# Altium integrated library on-semiconductor.IntLib: 17 symbols
Pins are listed as number, name and electrical type; pins without a type are passive.

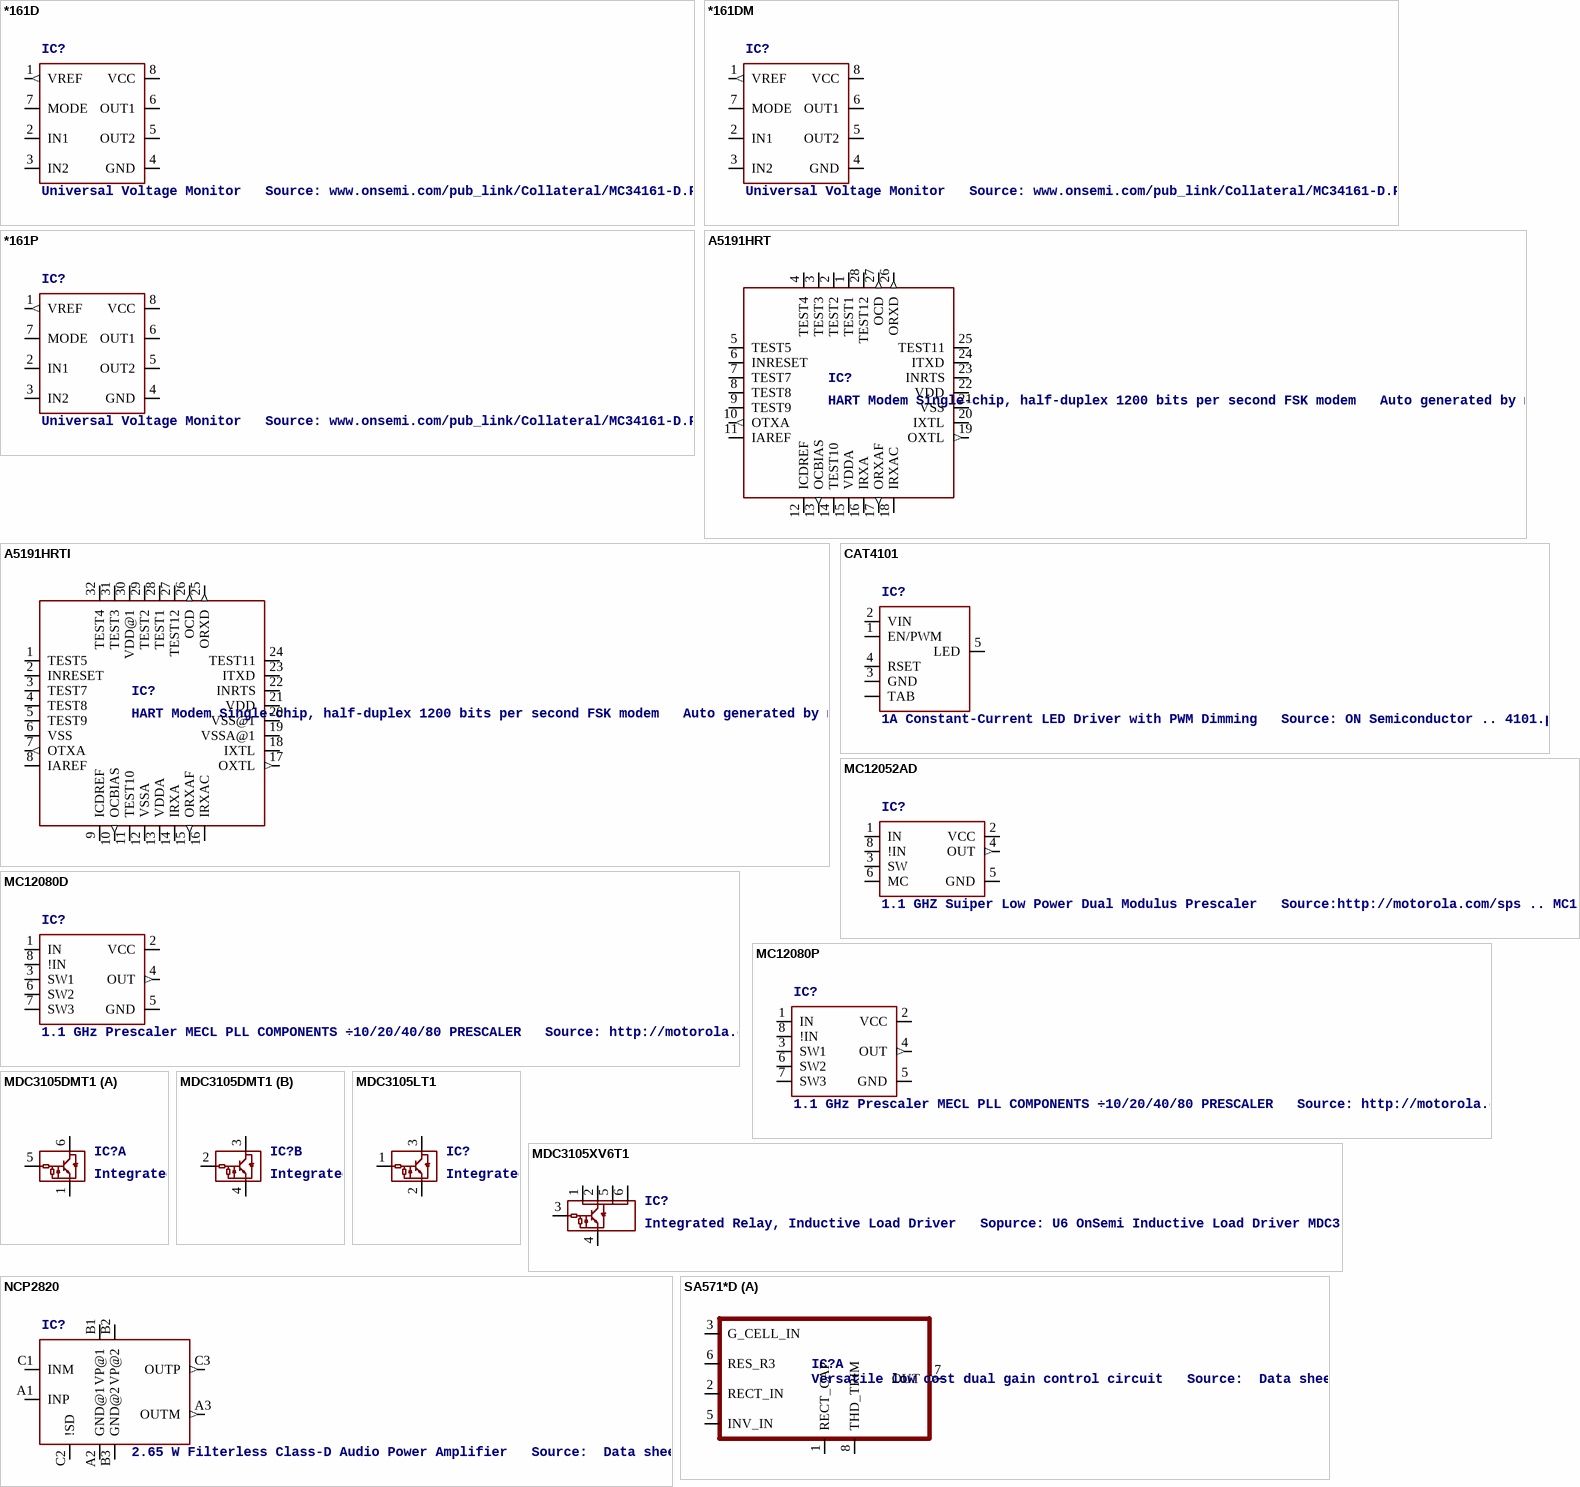
[diagram p0: symbols *161D to SA571*D]

## *161D
designator IC?, comment Universal Voltage Monitor   Source: www.onsemi.com/pub_link/Collateral/MC34161-D.PDF
MPN: MC33161D; MPN: MC34161D; MPN: NCV33161DR2G; MF: ON SEMICONDUCTOR; OC_FARNELL: 1192059; OC_NEWARK: 07F4768; OC_FARNELL: 1652462; OC_NEWARK: 07F5034; OC_FARNELL: unknown; OC_NEWARK: 27M2600
footprint SOIC8
pins: 1 VREF (out), 2 IN1, 3 IN2, 4 GND (power), 5 OUT2 (oc), 6 OUT1 (oc), 7 MODE, 8 VCC (power)

## *161DM
designator IC?, comment Universal Voltage Monitor   Source: www.onsemi.com/pub_link/Collateral/MC34161-D.PDF
MPN: MC33161DMR2G; MPN: MC34161DMR2G; MF: ON SEMICONDUCTOR; OC_FARNELL: 1705447; OC_NEWARK: 04R7825; OC_FARNELL: 1652462; OC_NEWARK: 42K0658
footprint MICRO8
pins: 1 VREF (out), 2 IN1, 3 IN2, 4 GND (power), 5 OUT2 (oc), 6 OUT1 (oc), 7 MODE, 8 VCC (power)

## *161P
designator IC?, comment Universal Voltage Monitor   Source: www.onsemi.com/pub_link/Collateral/MC34161-D.PDF
MPN: MC33161P; MPN: MC34161P; MF: ON SEMICONDUCTOR; OC_FARNELL: unknown; OC_NEWARK: 07F4769; OC_NEWARK: 07F5035
footprint DIL8
pins: 1 VREF (out), 2 IN1, 3 IN2, 4 GND (power), 5 OUT2 (oc), 6 OUT1 (oc), 7 MODE, 8 VCC (power)

## A5191HRT
designator IC?, comment HART Modem Single-chip, half-duplex 1200 bits per second FSK modem   Auto generated by make-symbol-device-package-bsdl.ulp Rev. 35 Source:OnSemi A5191HRT HART Modem Data Sheet.pdf
MPN: A5191HRTPG-XTD; OC_FARNELL: unknown; OC_NEWARK: 03P1167
footprint PLCC28
pins: 1 TEST1, 2 TEST2, 3 TEST3, 4 TEST4, 5 TEST5, 6 INRESET, 7 TEST7, 8 TEST8, 9 TEST9, 10 OTXA (out), 11 IAREF, 12 ICDREF, 13 OCBIAS (out), 14 TEST10, 15 VDDA (power), 16 IRXA, 17 ORXAF (out), 18 IRXAC, 19 OXTL (out), 20 IXTL, 21 VSS (power), 22 VDD (power), 23 INRTS, 24 ITXD, 25 TEST11, 26 ORXD (out), 27 OCD (out), 28 TEST12

## A5191HRTI
designator IC?, comment HART Modem Single-chip, half-duplex 1200 bits per second FSK modem   Auto generated by make-symbol-device-package-bsdl.ulp Rev. 35 Source:OnSemi A5191HRT HART Modem Data Sheet.pdf
MPN: A5191HRTLG-XTD; OC_FARNELL: unknown; OC_NEWARK: 03P1166
footprint LQFP32-7X7MM
pins: 1 TEST5, 2 INRESET, 3 TEST7, 4 TEST8, 5 TEST9, 6 VSS (power), 7 OTXA (out), 8 IAREF, 9 ICDREF, 10 OCBIAS (out), 11 TEST10, 12 VSSA (power), 13 VDDA (power), 14 IRXA, 15 ORXAF (out), 16 IRXAC, 17 OXTL (out), 18 IXTL, 19 VSSA@1 (power), 20 VSS@1 (power), 21 VDD (power), 22 INRTS, 23 ITXD, 24 TEST11, 25 ORXD (out), 26 OCD (out), 27 TEST12, 28 TEST1, 29 TEST2, 30 VDD@1 (power), 31 TEST3, 32 TEST4

## CAT4101
designator IC?, comment 1A Constant-Current LED Driver with PWM Dimming   Source: ON Semiconductor .. 4101.pdf
MPN: CAT4101TV-T75; OC_FARNELL: 1718452; OC_NEWARK: 08R5264
footprint TO263_5
pins: 1 EN/PWM, 2 VIN, 3 GND (power), 4 RSET, 5 LED (power), TAB

## MC12052AD
designator IC?, comment 1.1 GHZ Suiper Low Power Dual Modulus Prescaler   Source:http://motorola.com/sps .. MC12052A.pdf
OC_FARNELL: unknown; OC_NEWARK: unknown
footprint SO08
pins: 1 IN, 2 VCC (power), 3 SW, 4 OUT (out), 5 GND (power), 6 MC, 8 !IN

## MC12080D
designator IC?, comment 1.1 GHz Prescaler MECL PLL COMPONENTS ÷10/20/40/80 PRESCALER   Source: http://motorola.com/sps .. MC12080.pdf
MPN: MC12080D; MF: ON SEMICONDUCTOR; OC_FARNELL: 1607924; OC_NEWARK: 40C2542
footprint SO08
pins: 1 IN, 2 VCC (power), 3 SW1, 4 OUT (out), 5 GND (power), 6 SW2, 7 SW3, 8 !IN

## MC12080P
designator IC?, comment 1.1 GHz Prescaler MECL PLL COMPONENTS ÷10/20/40/80 PRESCALER   Source: http://motorola.com/sps .. MC12080.pdf
OC_FARNELL: unknown; OC_NEWARK: unknown
footprint DIL8
pins: 1 IN, 2 VCC (power), 3 SW1, 4 OUT (out), 5 GND (power), 6 SW2, 7 SW3, 8 !IN

## MDC3105DMT1
designator IC?, comment Integrated Relay, Inductive Load Driver   Sopurce: U6 OnSemi Inductive Load Driver MDC3105-D.PDF
MPN: MDC3105DMT1G; OC_FARNELL: unknown; OC_NEWARK: 04R7836
footprint SC-74
part A pins: 1 GND, 5 VIN, 6 VOUT
part B pins: 2 VIN, 3 VOUT, 4 GND

## MDC3105LT1
designator IC?, comment Integrated Relay, Inductive Load Driver   Sopurce: U6 OnSemi Inductive Load Driver MDC3105-D.PDF
MPN: MDC3105LT1; MF: ON SEMICONDUCTOR; OC_FARNELL: 1126459; OC_NEWARK: 16F6132
footprint SOT23
pins: 1 VIN, 2 GND, 3 VOUT

## MDC3105XV6T1
designator IC?, comment Integrated Relay, Inductive Load Driver   Sopurce: U6 OnSemi Inductive Load Driver MDC3105-D.PDF
OC_FARNELL: unknown; OC_NEWARK: unknown
footprint SOT-563
pins: 1 VOUT, 2 VOUT1, 3 VIN, 4 GND, 5 VOUT2, 6 VOUT3

## NCP2820
designator IC?, comment 2.65 W Filterless Class-D Audio Power Amplifier   Source:  Data sheet
footprint FLIP-CHIP9
pins: A1 INP, A2 GND@1 (power), A3 OUTM (out), B1 VP@1 (power), B2 VP@2 (power), B3 GND@2 (power), C1 INM, C2 !SD, C3 OUTP (out)

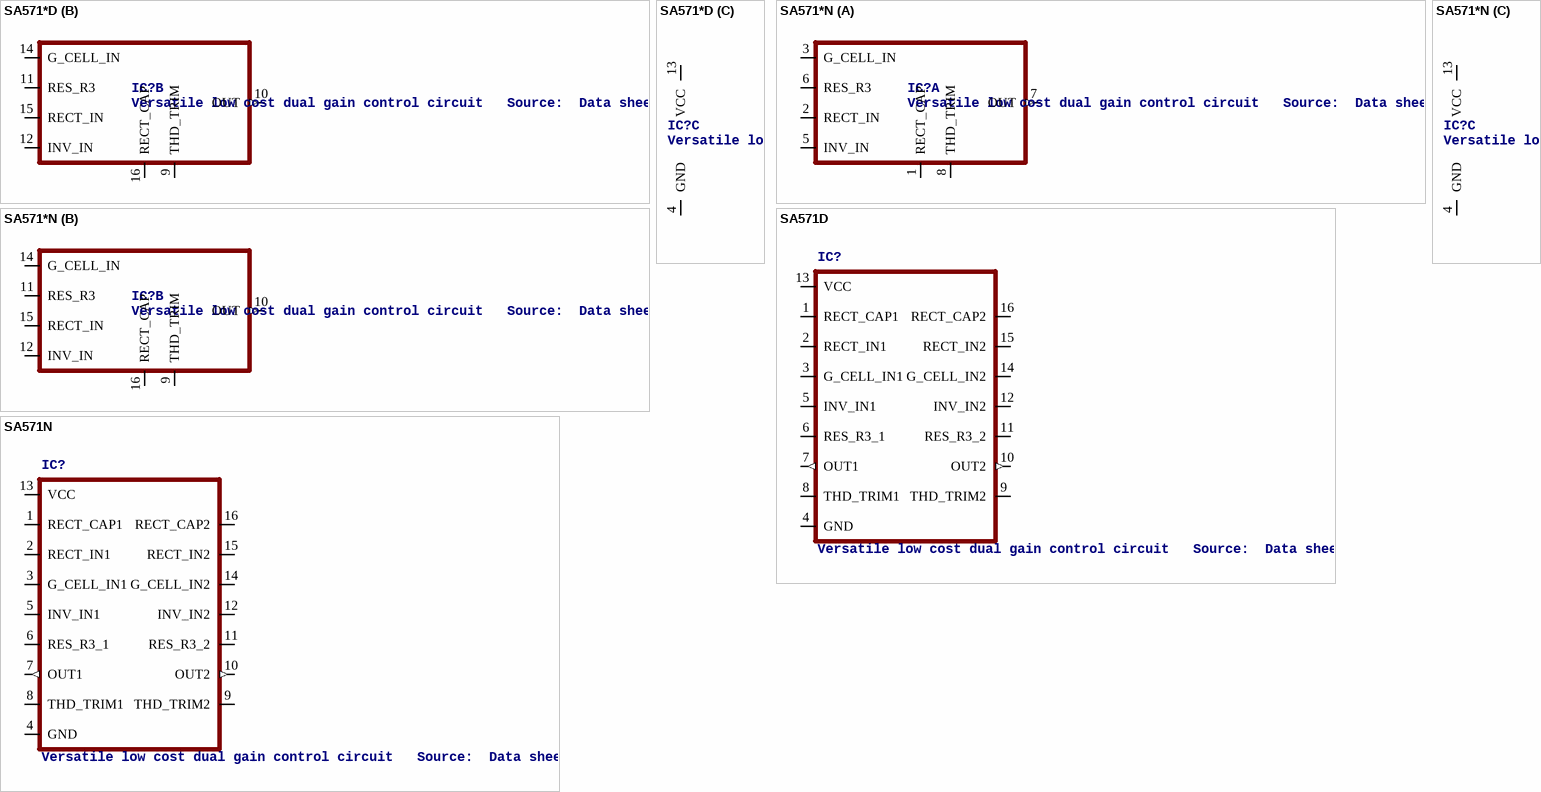
[diagram p1: symbols SA571*D to SA571N]

## SA571*D
designator IC?, comment Versatile low cost dual gain control circuit   Source:  Data sheet
footprint SO16WB
part A pins: 1 RECT_CAP, 2 RECT_IN, 3 G_CELL_IN, 5 INV_IN, 6 RES_R3, 7 OUT (out), 8 THD_TRIM
part B pins: 9 THD_TRIM, 10 OUT (out), 11 RES_R3, 12 INV_IN, 14 G_CELL_IN, 15 RECT_IN, 16 RECT_CAP
part C pins: 4 GND (power), 13 VCC (power)

## SA571*N
designator IC?, comment Versatile low cost dual gain control circuit   Source:  Data sheet
footprint DIL16
part A pins: 1 RECT_CAP, 2 RECT_IN, 3 G_CELL_IN, 5 INV_IN, 6 RES_R3, 7 OUT (out), 8 THD_TRIM
part B pins: 9 THD_TRIM, 10 OUT (out), 11 RES_R3, 12 INV_IN, 14 G_CELL_IN, 15 RECT_IN, 16 RECT_CAP
part C pins: 4 GND (power), 13 VCC (power)

## SA571D
designator IC?, comment Versatile low cost dual gain control circuit   Source:  Data sheet
footprint SO16WB
pins: 1 RECT_CAP1, 2 RECT_IN1, 3 G_CELL_IN1, 4 GND (power), 5 INV_IN1, 6 RES_R3_1, 7 OUT1 (out), 8 THD_TRIM1, 9 THD_TRIM2, 10 OUT2 (out), 11 RES_R3_2, 12 INV_IN2, 13 VCC (power), 14 G_CELL_IN2, 15 RECT_IN2, 16 RECT_CAP2

## SA571N
designator IC?, comment Versatile low cost dual gain control circuit   Source:  Data sheet
footprint DIL16
pins: 1 RECT_CAP1, 2 RECT_IN1, 3 G_CELL_IN1, 4 GND (power), 5 INV_IN1, 6 RES_R3_1, 7 OUT1 (out), 8 THD_TRIM1, 9 THD_TRIM2, 10 OUT2 (out), 11 RES_R3_2, 12 INV_IN2, 13 VCC (power), 14 G_CELL_IN2, 15 RECT_IN2, 16 RECT_CAP2